# EAGLE library part IMSC012 (library Transputer)
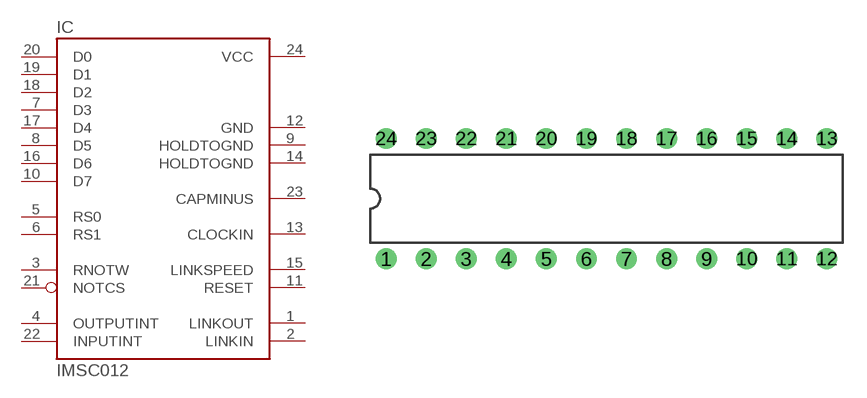
[diagram p6: symbol with the pads of DIL24-3; footprint DIL24-3]

Designator prefix IC

## IMSC012  [DIL24-3]
1  LINKOUT  out
2  LINKIN  in
3  RNOTW  in
4  OUTPUTINT  out
5  RS0  in
6  RS1  in
7  D3
8  D5
9  HOLDTOGND  in
10  D7
11  RESET  in
12  GND  pwr
13  CLOCKIN  in
14  HOLDTOGND  in
15  LINKSPEED  in
16  D6
17  D4
18  D2
19  D1
20  D0
21  NOTCS  in
22  INPUTINT  out
23  CAPMINUS  pas
24  VCC  pwr

## Footprint DIL24-3 (pad centres in mm)
drill 0.813: 1 -12.7,-3.81; 2 -10.16,-3.81; 3 -7.62,-3.81; 4 -5.08,-3.81; 5 -2.54,-3.81; 6 0,-3.81; 7 2.54,-3.81; 8 5.08,-3.81; 9 7.62,-3.81; 10 10.16,-3.81; 11 12.7,-3.81; 12 15.24,-3.81; 13 15.24,3.81; 14 12.7,3.81; 15 10.16,3.81; 16 7.62,3.81; 17 5.08,3.81; 18 2.54,3.81; 19 0,3.81; 20 -2.54,3.81; 21 -5.08,3.81; 22 -7.62,3.81; 23 -10.16,3.81; 24 -12.7,3.81